# EAGLE library part PINHEAD_1X08 (library pinhead)
pinheader 8P
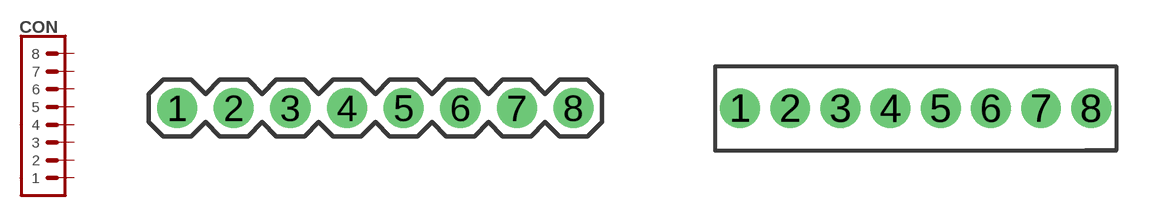
[diagram p1: symbol with the pads of PLS8; footprints PLS8, 1X08-PTH-1.27]

Designator prefix CON

## PINHEAD_1X08-2.54  [PLS8]
1  1  pas
2  2  pas
3  3  pas
4  4  pas
5  5  pas
6  6  pas
7  7  pas
8  8  pas

## PINHEAD_1X08-1.27 (DIGIKEY#: S9014E-08-ND; MANF: Sullins Connector Solutions; MANF#: GRPB081VWVN-RC)  [1X08-PTH-1.27]
Pads as for PLS8

## PINHEAD_1X08-1.27-FEMALE (DIGIKEY#: S9008E-08-ND; MANF: Sullins Connector Solutions; MANF#: LPPB081NFFN-RC)  [1X08-PTH-1.27-FEMALE]
Pads as for PLS8

## PINHEAD_1X08-2.54-FEMALE  [PBS8]
Pads as for PLS8

## PINHEAD_1X08-2.54-SMD-MALE  [1X08-SMD-2.54]
P$1  1  pas
P$2  2  pas
P$3  3  pas
P$4  4  pas
P$5  5  pas
P$6  6  pas
P$7  7  pas
P$8  8  pas

## PINHEAD_1X08-PLS8RD  [PLS8R-D]
Pads as for PLS8

## PINHEAD_1X08-2-MALE  [PLS2-8]
Pads as for PLS8

## PINHEAD_1X08-2-FEMALE  [PBS2-8]
Pads as for PLS8

## PINHEAD_1X08-2.54-FEMALE-RA  [1X08-PTH-2.54-FEMALE-RA]
Pads as for PLS8

## Footprint PLS8 (pad centres in mm)
3D model <https://grabcad.com/library/pls-connectors-1>
drill 1 pad 1.8: 1 -8.89,0; 2 -6.35,0; 3 -3.81,0; 4 -1.27,0; 5 1.27,0; 6 3.81,0; 7 6.35,0; 8 8.89,0

## Footprint 1X08-PTH-1.27 (pad centres in mm)
drill 0.5 pad 1: 1 -4.445,0; 2 -3.175,0; 3 -1.905,0; 4 -0.635,0; 5 0.635,0; 6 1.905,0; 7 3.175,0; 8 4.445,0

## Footprint 1X08-PTH-1.27-FEMALE (pad centres in mm)
drill 0.5 pad 1: 1 -4.445,0; 2 -3.175,0; 3 -1.905,0; 4 -0.635,0; 5 0.635,0; 6 1.905,0; 7 3.175,0; 8 4.445,0

## Footprint PBS8 (pad centres in mm)
3D model <https://grabcad.com/library/pbs-connectors-1>
drill 1 pad 1.8: 1 -8.89,0; 2 -6.35,0; 3 -3.81,0; 4 -1.27,0; 5 1.27,0; 6 3.81,0; 7 6.35,0; 8 8.89,0

## Footprint 1X08-SMD-2.54 (pad centres in mm)
smd 1 x 4.6: P$1 -8.89,2.3; P$2 -3.81,2.3; P$3 1.27,2.3; P$4 6.35,2.3; P$5 -6.35,-2.3; P$6 -1.27,-2.3; P$7 3.81,-2.3; P$8 8.89,-2.3

## Footprint PLS8R-D (pad centres in mm)
NREC008SBAN-M71RC from Sullins
drill 1 pad 1.7: 1 -8.89,0; 2 -6.35,0; 3 -3.81,0; 4 -1.27,0; 5 1.27,0; 6 3.81,0; 7 6.35,0; 8 8.89,0

## Footprint PLS2-8 (pad centres in mm)
3D model <https://grabcad.com/library/pls2-connectors-1>
drill 0.8 pad 1.5: 1 -7,0; 2 -5,0; 3 -3,0; 4 -1,0; 5 1,0; 6 3,0; 7 5,0; 8 7,0

## Footprint PBS2-8 (pad centres in mm)
3D model <https://grabcad.com/library/pbs2-connectors-h6-35-1>
drill 0.8 pad 1.4: 1 -7,0; 2 -5,0; 3 -3,0; 4 -1,0; 5 1,0; 6 3,0; 7 5,0; 8 7,0

## Footprint 1X08-PTH-2.54-FEMALE-RA (pad centres in mm)
drill 1 pad 1.8: 1 -8.89,0; 2 -6.35,0; 3 -3.81,0; 4 -1.27,0; 5 1.27,0; 6 3.81,0; 7 6.35,0; 8 8.89,0